# Altium footprint library Connector_PinSocket_1.27mm.PcbLib: 246 footprints (part 16 of 16)
Each footprint in its own frame and in the unit in brackets; x right, y up, seen from the top. Pads: shape width x height; smd on the part's side, far side on the other; paste and mask are expansions set on the pad; w line width, h text height; cw(c..) or ccw(c..) is an arc to the next point about the centre after c.
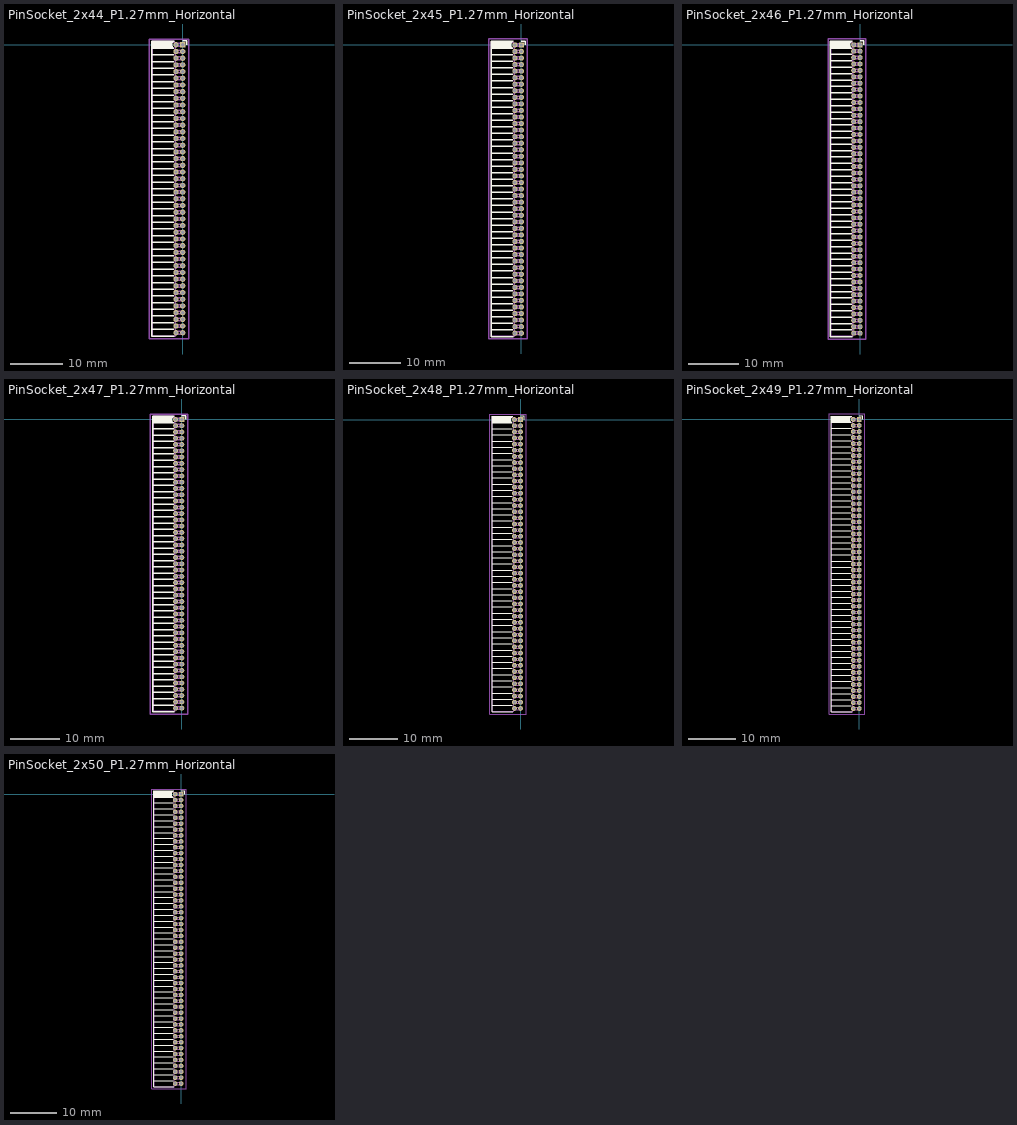
[diagram p15: the footprints below, top view; thin cyan lines are the x and y axes]

## PinSocket_2x44_P1.27mm_Horizontal [mm]
pads (88):
  rect 1x1 hole 0.65: 1(0,0)
  round 1 hole 0.65: 2(-1.27,0) 3(0,-1.27) 4(-1.27,-1.27) 5(0,-2.54) 6(-1.27,-2.54) 7(0,-3.81) 8(-1.27,-3.81) 9(0,-5.08) 10(-1.27,-5.08) 11(0,-6.35) 12(-1.27,-6.35) 13(0,-7.62) 14(-1.27,-7.62) 15(0,-8.89) 16(-1.27,-8.89) 17(0,-10.16) 18(-1.27,-10.16) 19(0,-11.43) 20(-1.27,-11.43) 21(0,-12.7) 22(-1.27,-12.7) 23(0,-13.97) 24(-1.27,-13.97) 25(0,-15.24) 26(-1.27,-15.24) 27(0,-16.51) 28(-1.27,-16.51) 29(0,-17.78) 30(-1.27,-17.78) 31(0,-19.05) 32(-1.27,-19.05) 33(0,-20.32) 34(-1.27,-20.32) 35(0,-21.59) 36(-1.27,-21.59) 37(0,-22.86) 38(-1.27,-22.86) 39(0,-24.13) 40(-1.27,-24.13) 41(0,-25.4) 42(-1.27,-25.4) 43(0,-26.67) 44(-1.27,-26.67) 45(0,-27.94) 46(-1.27,-27.94) 47(0,-29.21) 48(-1.27,-29.21) 49(0,-30.48) 50(-1.27,-30.48) 51(0,-31.75) 52(-1.27,-31.75) 53(0,-33.02) 54(-1.27,-33.02) 55(0,-34.29) 56(-1.27,-34.29) 57(0,-35.56) 58(-1.27,-35.56) 59(0,-36.83) 60(-1.27,-36.83) 61(0,-38.1) 62(-1.27,-38.1) 63(0,-39.37) 64(-1.27,-39.37) 65(0,-40.64) 66(-1.27,-40.64) 67(0,-41.91) 68(-1.27,-41.91) 69(0,-43.18) 70(-1.27,-43.18) 71(0,-44.45) 72(-1.27,-44.45) 73(0,-45.72) 74(-1.27,-45.72) 75(0,-46.99) 76(-1.27,-46.99) 77(0,-48.26) 78(-1.27,-48.26) 79(0,-49.53) 80(-1.27,-49.53) 81(0,-50.8) 82(-1.27,-50.8) 83(0,-52.07) 84(-1.27,-52.07) 85(0,-53.34) 86(-1.27,-53.34) 87(0,-54.61) 88(-1.27,-54.61)
F.SilkS:
  lines w0.254: -5.88,-53.975 -1.688,-53.975 ; -5.88,-52.705 -1.688,-52.705 ; -5.88,-51.435 -1.688,-51.435 ; -5.88,-50.165 -1.688,-50.165 ; -5.88,-48.895 -1.688,-48.895 ; -5.88,-47.625 -1.688,-47.625 ; -5.88,-46.355 -1.688,-46.355 ; -5.88,-45.085 -1.688,-45.085 ; -5.88,-43.815 -1.688,-43.815 ; -5.88,-42.545 -1.688,-42.545 ; -5.88,-41.275 -1.688,-41.275 ; -5.88,-40.005 -1.688,-40.005 ; -5.88,-38.735 -1.688,-38.735 ; -5.88,-37.465 -1.688,-37.465 ; -5.88,-36.195 -1.688,-36.195 ; -5.88,-34.925 -1.688,-34.925 ; -5.88,-33.655 -1.688,-33.655 ; -5.88,-32.385 -1.688,-32.385 ; -5.88,-31.115 -1.688,-31.115 ; -5.88,-29.845 -1.688,-29.845 ; -5.88,-28.575 -1.688,-28.575 ; -5.88,-27.305 -1.688,-27.305 ; -5.88,-26.035 -1.688,-26.035 ; -5.88,-24.765 -1.688,-24.765 ; -5.88,-23.495 -1.688,-23.495 ; -5.88,-22.225 -1.688,-22.225 ; -5.88,-20.955 -1.688,-20.955 ; -5.88,-19.685 -1.688,-19.685 ; -5.88,-18.415 -1.688,-18.415 ; -5.88,-17.145 -1.688,-17.145 ; -5.88,-15.875 -1.688,-15.875 ; -5.88,-14.605 -1.688,-14.605 ; -5.88,-13.335 -1.688,-13.335 ; -5.88,-12.065 -1.688,-12.065 ; -5.88,-10.795 -1.688,-10.795 ; -5.88,-9.525 -1.688,-9.525 ; -5.88,-8.255 -1.688,-8.255 ; -5.88,-6.985 -1.688,-6.985 ; -5.88,-5.715 -1.688,-5.715 ; -5.88,-4.445 -1.688,-4.445 ; -5.88,-3.175 -1.688,-3.175 ; -5.88,-1.905 -1.688,-1.905 ; -5.88,-0.635 -1.688,-0.635 ; -5.88,-0.525 -1.82,-0.525 ; -5.88,-0.415 -1.907,-0.415 ; -5.88,-0.305 -1.966,-0.305 ; -5.88,-0.195 -2.005,-0.195 ; -5.88,-0.085 -2.025,-0.085 ; -5.88,0.025 -2.03,0.025 ; -5.88,0.135 -2.018,0.135 ; -5.88,0.245 -1.989,0.245 ; -5.88,0.355 -1.942,0.355 ; -5.88,0.465 -1.871,0.465 ; -5.88,0.575 -1.767,0.575 ; -1.578,-55.305 -5.88,-55.305 -5.88,0.695 -1.578,0.695 ; 0,0.76 0.76,0.76 0.76,0
Top Assembly:
  lines w0.254: -1.42,-54.86 0,-54.86 0,-54.36 -1.42,-54.36 ; -1.42,-53.59 0,-53.59 0,-53.09 -1.42,-53.09 ; -1.42,-52.32 0,-52.32 0,-51.82 -1.42,-51.82 ; -1.42,-51.05 0,-51.05 0,-50.55 -1.42,-50.55 ; -1.42,-49.78 0,-49.78 0,-49.28 -1.42,-49.28 ; -1.42,-48.51 0,-48.51 0,-48.01 -1.42,-48.01 ; -1.42,-47.24 0,-47.24 0,-46.74 -1.42,-46.74 ; -1.42,-45.97 0,-45.97 0,-45.47 -1.42,-45.47 ; -1.42,-44.7 0,-44.7 0,-44.2 -1.42,-44.2 ; -1.42,-43.43 0,-43.43 0,-42.93 -1.42,-42.93 ; -1.42,-42.16 0,-42.16 0,-41.66 -1.42,-41.66 ; -1.42,-40.89 0,-40.89 0,-40.39 -1.42,-40.39 ; -1.42,-39.62 0,-39.62 0,-39.12 -1.42,-39.12 ; -1.42,-38.35 0,-38.35 0,-37.85 -1.42,-37.85 ; -1.42,-37.08 0,-37.08 0,-36.58 -1.42,-36.58 ; -1.42,-35.81 0,-35.81 0,-35.31 -1.42,-35.31 ; -1.42,-34.54 0,-34.54 0,-34.04 -1.42,-34.04 ; -1.42,-33.27 0,-33.27 0,-32.77 -1.42,-32.77 ; -1.42,-32 0,-32 0,-31.5 -1.42,-31.5 ; -1.42,-30.73 0,-30.73 0,-30.23 -1.42,-30.23 ; -1.42,-29.46 0,-29.46 0,-28.96 -1.42,-28.96 ; -1.42,-28.19 0,-28.19 0,-27.69 -1.42,-27.69 ; -1.42,-26.92 0,-26.92 0,-26.42 -1.42,-26.42 ; -1.42,-25.65 0,-25.65 0,-25.15 -1.42,-25.15 ; -1.42,-24.38 0,-24.38 0,-23.88 -1.42,-23.88 ; -1.42,-23.11 0,-23.11 0,-22.61 -1.42,-22.61 ; -1.42,-21.84 0,-21.84 0,-21.34 -1.42,-21.34 ; -1.42,-20.57 0,-20.57 0,-20.07 -1.42,-20.07 ; -1.42,-19.3 0,-19.3 0,-18.8 -1.42,-18.8 ; -1.42,-18.03 0,-18.03 0,-17.53 -1.42,-17.53 ; -1.42,-16.76 0,-16.76 0,-16.26 -1.42,-16.26 ; -1.42,-15.49 0,-15.49 0,-14.99 -1.42,-14.99 ; -1.42,-14.22 0,-14.22 0,-13.72 -1.42,-13.72 ; -1.42,-12.95 0,-12.95 0,-12.45 -1.42,-12.45 ; -1.42,-11.68 0,-11.68 0,-11.18 -1.42,-11.18 ; -1.42,-10.41 0,-10.41 0,-9.91 -1.42,-9.91 ; -1.42,-9.14 0,-9.14 0,-8.64 -1.42,-8.64 ; -1.42,-7.87 0,-7.87 0,-7.37 -1.42,-7.37 ; -1.42,-6.6 0,-6.6 0,-6.1 -1.42,-6.1 ; -1.42,-5.33 0,-5.33 0,-4.83 -1.42,-4.83 ; -1.42,-4.06 0,-4.06 0,-3.56 -1.42,-3.56 ; -1.42,-2.79 0,-2.79 0,-2.29 -1.42,-2.29 ; -1.42,-1.52 0,-1.52 0,-1.02 -1.42,-1.02 ; -1.42,-0.25 0,-0.25 0,0.25 -1.42,0.25 ; -1.42,0.25 -1.42,-55.245 -5.82,-55.245 -5.82,0.635 -1.805,0.635 -1.42,0.25
  text "'.Designator'" at -2.78,-31.352 h1
Top Courtyard:
  lines w0.254: -6.35,-55.8 1.15,-55.8 1.15,1.1 -6.35,1.1 -6.35,-55.8
Top Designator:
  text ".Designator" at -10.218,-27.858 h1.52

## PinSocket_2x45_P1.27mm_Horizontal [mm]
pads (90):
  rect 1x1 hole 0.65: 1(0,0)
  round 1 hole 0.65: 2(-1.27,0) 3(0,-1.27) 4(-1.27,-1.27) 5(0,-2.54) 6(-1.27,-2.54) 7(0,-3.81) 8(-1.27,-3.81) 9(0,-5.08) 10(-1.27,-5.08) 11(0,-6.35) 12(-1.27,-6.35) 13(0,-7.62) 14(-1.27,-7.62) 15(0,-8.89) 16(-1.27,-8.89) 17(0,-10.16) 18(-1.27,-10.16) 19(0,-11.43) 20(-1.27,-11.43) 21(0,-12.7) 22(-1.27,-12.7) 23(0,-13.97) 24(-1.27,-13.97) 25(0,-15.24) 26(-1.27,-15.24) 27(0,-16.51) 28(-1.27,-16.51) 29(0,-17.78) 30(-1.27,-17.78) 31(0,-19.05) 32(-1.27,-19.05) 33(0,-20.32) 34(-1.27,-20.32) 35(0,-21.59) 36(-1.27,-21.59) 37(0,-22.86) 38(-1.27,-22.86) 39(0,-24.13) 40(-1.27,-24.13) 41(0,-25.4) 42(-1.27,-25.4) 43(0,-26.67) 44(-1.27,-26.67) 45(0,-27.94) 46(-1.27,-27.94) 47(0,-29.21) 48(-1.27,-29.21) 49(0,-30.48) 50(-1.27,-30.48) 51(0,-31.75) 52(-1.27,-31.75) 53(0,-33.02) 54(-1.27,-33.02) 55(0,-34.29) 56(-1.27,-34.29) 57(0,-35.56) 58(-1.27,-35.56) 59(0,-36.83) 60(-1.27,-36.83) 61(0,-38.1) 62(-1.27,-38.1) 63(0,-39.37) 64(-1.27,-39.37) 65(0,-40.64) 66(-1.27,-40.64) 67(0,-41.91) 68(-1.27,-41.91) 69(0,-43.18) 70(-1.27,-43.18) 71(0,-44.45) 72(-1.27,-44.45) 73(0,-45.72) 74(-1.27,-45.72) 75(0,-46.99) 76(-1.27,-46.99) 77(0,-48.26) 78(-1.27,-48.26) 79(0,-49.53) 80(-1.27,-49.53) 81(0,-50.8) 82(-1.27,-50.8) 83(0,-52.07) 84(-1.27,-52.07) 85(0,-53.34) 86(-1.27,-53.34) 87(0,-54.61) 88(-1.27,-54.61) 89(0,-55.88) 90(-1.27,-55.88)
F.SilkS:
  lines w0.254: -5.88,-55.245 -1.688,-55.245 ; -5.88,-53.975 -1.688,-53.975 ; -5.88,-52.705 -1.688,-52.705 ; -5.88,-51.435 -1.688,-51.435 ; -5.88,-50.165 -1.688,-50.165 ; -5.88,-48.895 -1.688,-48.895 ; -5.88,-47.625 -1.688,-47.625 ; -5.88,-46.355 -1.688,-46.355 ; -5.88,-45.085 -1.688,-45.085 ; -5.88,-43.815 -1.688,-43.815 ; -5.88,-42.545 -1.688,-42.545 ; -5.88,-41.275 -1.688,-41.275 ; -5.88,-40.005 -1.688,-40.005 ; -5.88,-38.735 -1.688,-38.735 ; -5.88,-37.465 -1.688,-37.465 ; -5.88,-36.195 -1.688,-36.195 ; -5.88,-34.925 -1.688,-34.925 ; -5.88,-33.655 -1.688,-33.655 ; -5.88,-32.385 -1.688,-32.385 ; -5.88,-31.115 -1.688,-31.115 ; -5.88,-29.845 -1.688,-29.845 ; -5.88,-28.575 -1.688,-28.575 ; -5.88,-27.305 -1.688,-27.305 ; -5.88,-26.035 -1.688,-26.035 ; -5.88,-24.765 -1.688,-24.765 ; -5.88,-23.495 -1.688,-23.495 ; -5.88,-22.225 -1.688,-22.225 ; -5.88,-20.955 -1.688,-20.955 ; -5.88,-19.685 -1.688,-19.685 ; -5.88,-18.415 -1.688,-18.415 ; -5.88,-17.145 -1.688,-17.145 ; -5.88,-15.875 -1.688,-15.875 ; -5.88,-14.605 -1.688,-14.605 ; -5.88,-13.335 -1.688,-13.335 ; -5.88,-12.065 -1.688,-12.065 ; -5.88,-10.795 -1.688,-10.795 ; -5.88,-9.525 -1.688,-9.525 ; -5.88,-8.255 -1.688,-8.255 ; -5.88,-6.985 -1.688,-6.985 ; -5.88,-5.715 -1.688,-5.715 ; -5.88,-4.445 -1.688,-4.445 ; -5.88,-3.175 -1.688,-3.175 ; -5.88,-1.905 -1.688,-1.905 ; -5.88,-0.635 -1.688,-0.635 ; -5.88,-0.525 -1.82,-0.525 ; -5.88,-0.415 -1.907,-0.415 ; -5.88,-0.305 -1.966,-0.305 ; -5.88,-0.195 -2.005,-0.195 ; -5.88,-0.085 -2.025,-0.085 ; -5.88,0.025 -2.03,0.025 ; -5.88,0.135 -2.018,0.135 ; -5.88,0.245 -1.989,0.245 ; -5.88,0.355 -1.942,0.355 ; -5.88,0.465 -1.871,0.465 ; -5.88,0.575 -1.767,0.575 ; -1.578,-56.575 -5.88,-56.575 -5.88,0.695 -1.578,0.695 ; 0,0.76 0.76,0.76 0.76,0
Top Assembly:
  lines w0.254: -1.42,-56.13 0,-56.13 0,-55.63 -1.42,-55.63 ; -1.42,-54.86 0,-54.86 0,-54.36 -1.42,-54.36 ; -1.42,-53.59 0,-53.59 0,-53.09 -1.42,-53.09 ; -1.42,-52.32 0,-52.32 0,-51.82 -1.42,-51.82 ; -1.42,-51.05 0,-51.05 0,-50.55 -1.42,-50.55 ; -1.42,-49.78 0,-49.78 0,-49.28 -1.42,-49.28 ; -1.42,-48.51 0,-48.51 0,-48.01 -1.42,-48.01 ; -1.42,-47.24 0,-47.24 0,-46.74 -1.42,-46.74 ; -1.42,-45.97 0,-45.97 0,-45.47 -1.42,-45.47 ; -1.42,-44.7 0,-44.7 0,-44.2 -1.42,-44.2 ; -1.42,-43.43 0,-43.43 0,-42.93 -1.42,-42.93 ; -1.42,-42.16 0,-42.16 0,-41.66 -1.42,-41.66 ; -1.42,-40.89 0,-40.89 0,-40.39 -1.42,-40.39 ; -1.42,-39.62 0,-39.62 0,-39.12 -1.42,-39.12 ; -1.42,-38.35 0,-38.35 0,-37.85 -1.42,-37.85 ; -1.42,-37.08 0,-37.08 0,-36.58 -1.42,-36.58 ; -1.42,-35.81 0,-35.81 0,-35.31 -1.42,-35.31 ; -1.42,-34.54 0,-34.54 0,-34.04 -1.42,-34.04 ; -1.42,-33.27 0,-33.27 0,-32.77 -1.42,-32.77 ; -1.42,-32 0,-32 0,-31.5 -1.42,-31.5 ; -1.42,-30.73 0,-30.73 0,-30.23 -1.42,-30.23 ; -1.42,-29.46 0,-29.46 0,-28.96 -1.42,-28.96 ; -1.42,-28.19 0,-28.19 0,-27.69 -1.42,-27.69 ; -1.42,-26.92 0,-26.92 0,-26.42 -1.42,-26.42 ; -1.42,-25.65 0,-25.65 0,-25.15 -1.42,-25.15 ; -1.42,-24.38 0,-24.38 0,-23.88 -1.42,-23.88 ; -1.42,-23.11 0,-23.11 0,-22.61 -1.42,-22.61 ; -1.42,-21.84 0,-21.84 0,-21.34 -1.42,-21.34 ; -1.42,-20.57 0,-20.57 0,-20.07 -1.42,-20.07 ; -1.42,-19.3 0,-19.3 0,-18.8 -1.42,-18.8 ; -1.42,-18.03 0,-18.03 0,-17.53 -1.42,-17.53 ; -1.42,-16.76 0,-16.76 0,-16.26 -1.42,-16.26 ; -1.42,-15.49 0,-15.49 0,-14.99 -1.42,-14.99 ; -1.42,-14.22 0,-14.22 0,-13.72 -1.42,-13.72 ; -1.42,-12.95 0,-12.95 0,-12.45 -1.42,-12.45 ; -1.42,-11.68 0,-11.68 0,-11.18 -1.42,-11.18 ; -1.42,-10.41 0,-10.41 0,-9.91 -1.42,-9.91 ; -1.42,-9.14 0,-9.14 0,-8.64 -1.42,-8.64 ; -1.42,-7.87 0,-7.87 0,-7.37 -1.42,-7.37 ; -1.42,-6.6 0,-6.6 0,-6.1 -1.42,-6.1 ; -1.42,-5.33 0,-5.33 0,-4.83 -1.42,-4.83 ; -1.42,-4.06 0,-4.06 0,-3.56 -1.42,-3.56 ; -1.42,-2.79 0,-2.79 0,-2.29 -1.42,-2.29 ; -1.42,-1.52 0,-1.52 0,-1.02 -1.42,-1.02 ; -1.42,-0.25 0,-0.25 0,0.25 -1.42,0.25 ; -1.42,0.25 -1.42,-56.515 -5.82,-56.515 -5.82,0.635 -1.805,0.635 -1.42,0.25
  text "'.Designator'" at -2.78,-31.987 h1
Top Courtyard:
  lines w0.254: -6.35,-57 1.15,-57 1.15,1.15 -6.35,1.15 -6.35,-57
Top Designator:
  text ".Designator" at -10.218,-28.433 h1.52

## PinSocket_2x46_P1.27mm_Horizontal [mm]
pads (92):
  rect 1x1 hole 0.65: 1(0,0)
  round 1 hole 0.65: 2(-1.27,0) 3(0,-1.27) 4(-1.27,-1.27) 5(0,-2.54) 6(-1.27,-2.54) 7(0,-3.81) 8(-1.27,-3.81) 9(0,-5.08) 10(-1.27,-5.08) 11(0,-6.35) 12(-1.27,-6.35) 13(0,-7.62) 14(-1.27,-7.62) 15(0,-8.89) 16(-1.27,-8.89) 17(0,-10.16) 18(-1.27,-10.16) 19(0,-11.43) 20(-1.27,-11.43) 21(0,-12.7) 22(-1.27,-12.7) 23(0,-13.97) 24(-1.27,-13.97) 25(0,-15.24) 26(-1.27,-15.24) 27(0,-16.51) 28(-1.27,-16.51) 29(0,-17.78) 30(-1.27,-17.78) 31(0,-19.05) 32(-1.27,-19.05) 33(0,-20.32) 34(-1.27,-20.32) 35(0,-21.59) 36(-1.27,-21.59) 37(0,-22.86) 38(-1.27,-22.86) 39(0,-24.13) 40(-1.27,-24.13) 41(0,-25.4) 42(-1.27,-25.4) 43(0,-26.67) 44(-1.27,-26.67) 45(0,-27.94) 46(-1.27,-27.94) 47(0,-29.21) 48(-1.27,-29.21) 49(0,-30.48) 50(-1.27,-30.48) 51(0,-31.75) 52(-1.27,-31.75) 53(0,-33.02) 54(-1.27,-33.02) 55(0,-34.29) 56(-1.27,-34.29) 57(0,-35.56) 58(-1.27,-35.56) 59(0,-36.83) 60(-1.27,-36.83) 61(0,-38.1) 62(-1.27,-38.1) 63(0,-39.37) 64(-1.27,-39.37) 65(0,-40.64) 66(-1.27,-40.64) 67(0,-41.91) 68(-1.27,-41.91) 69(0,-43.18) 70(-1.27,-43.18) 71(0,-44.45) 72(-1.27,-44.45) 73(0,-45.72) 74(-1.27,-45.72) 75(0,-46.99) 76(-1.27,-46.99) 77(0,-48.26) 78(-1.27,-48.26) 79(0,-49.53) 80(-1.27,-49.53) 81(0,-50.8) 82(-1.27,-50.8) 83(0,-52.07) 84(-1.27,-52.07) 85(0,-53.34) 86(-1.27,-53.34) 87(0,-54.61) 88(-1.27,-54.61) 89(0,-55.88) 90(-1.27,-55.88) 91(0,-57.15) 92(-1.27,-57.15)
F.SilkS:
  lines w0.254: -5.88,-56.515 -1.688,-56.515 ; -5.88,-55.245 -1.688,-55.245 ; -5.88,-53.975 -1.688,-53.975 ; -5.88,-52.705 -1.688,-52.705 ; -5.88,-51.435 -1.688,-51.435 ; -5.88,-50.165 -1.688,-50.165 ; -5.88,-48.895 -1.688,-48.895 ; -5.88,-47.625 -1.688,-47.625 ; -5.88,-46.355 -1.688,-46.355 ; -5.88,-45.085 -1.688,-45.085 ; -5.88,-43.815 -1.688,-43.815 ; -5.88,-42.545 -1.688,-42.545 ; -5.88,-41.275 -1.688,-41.275 ; -5.88,-40.005 -1.688,-40.005 ; -5.88,-38.735 -1.688,-38.735 ; -5.88,-37.465 -1.688,-37.465 ; -5.88,-36.195 -1.688,-36.195 ; -5.88,-34.925 -1.688,-34.925 ; -5.88,-33.655 -1.688,-33.655 ; -5.88,-32.385 -1.688,-32.385 ; -5.88,-31.115 -1.688,-31.115 ; -5.88,-29.845 -1.688,-29.845 ; -5.88,-28.575 -1.688,-28.575 ; -5.88,-27.305 -1.688,-27.305 ; -5.88,-26.035 -1.688,-26.035 ; -5.88,-24.765 -1.688,-24.765 ; -5.88,-23.495 -1.688,-23.495 ; -5.88,-22.225 -1.688,-22.225 ; -5.88,-20.955 -1.688,-20.955 ; -5.88,-19.685 -1.688,-19.685 ; -5.88,-18.415 -1.688,-18.415 ; -5.88,-17.145 -1.688,-17.145 ; -5.88,-15.875 -1.688,-15.875 ; -5.88,-14.605 -1.688,-14.605 ; -5.88,-13.335 -1.688,-13.335 ; -5.88,-12.065 -1.688,-12.065 ; -5.88,-10.795 -1.688,-10.795 ; -5.88,-9.525 -1.688,-9.525 ; -5.88,-8.255 -1.688,-8.255 ; -5.88,-6.985 -1.688,-6.985 ; -5.88,-5.715 -1.688,-5.715 ; -5.88,-4.445 -1.688,-4.445 ; -5.88,-3.175 -1.688,-3.175 ; -5.88,-1.905 -1.688,-1.905 ; -5.88,-0.635 -1.688,-0.635 ; -5.88,-0.525 -1.82,-0.525 ; -5.88,-0.415 -1.907,-0.415 ; -5.88,-0.305 -1.966,-0.305 ; -5.88,-0.195 -2.005,-0.195 ; -5.88,-0.085 -2.025,-0.085 ; -5.88,0.025 -2.03,0.025 ; -5.88,0.135 -2.018,0.135 ; -5.88,0.245 -1.989,0.245 ; -5.88,0.355 -1.942,0.355 ; -5.88,0.465 -1.871,0.465 ; -5.88,0.575 -1.767,0.575 ; -1.578,-57.845 -5.88,-57.845 -5.88,0.695 -1.578,0.695 ; 0,0.76 0.76,0.76 0.76,0
Top Assembly:
  lines w0.254: -1.42,-57.4 0,-57.4 0,-56.9 -1.42,-56.9 ; -1.42,-56.13 0,-56.13 0,-55.63 -1.42,-55.63 ; -1.42,-54.86 0,-54.86 0,-54.36 -1.42,-54.36 ; -1.42,-53.59 0,-53.59 0,-53.09 -1.42,-53.09 ; -1.42,-52.32 0,-52.32 0,-51.82 -1.42,-51.82 ; -1.42,-51.05 0,-51.05 0,-50.55 -1.42,-50.55 ; -1.42,-49.78 0,-49.78 0,-49.28 -1.42,-49.28 ; -1.42,-48.51 0,-48.51 0,-48.01 -1.42,-48.01 ; -1.42,-47.24 0,-47.24 0,-46.74 -1.42,-46.74 ; -1.42,-45.97 0,-45.97 0,-45.47 -1.42,-45.47 ; -1.42,-44.7 0,-44.7 0,-44.2 -1.42,-44.2 ; -1.42,-43.43 0,-43.43 0,-42.93 -1.42,-42.93 ; -1.42,-42.16 0,-42.16 0,-41.66 -1.42,-41.66 ; -1.42,-40.89 0,-40.89 0,-40.39 -1.42,-40.39 ; -1.42,-39.62 0,-39.62 0,-39.12 -1.42,-39.12 ; -1.42,-38.35 0,-38.35 0,-37.85 -1.42,-37.85 ; -1.42,-37.08 0,-37.08 0,-36.58 -1.42,-36.58 ; -1.42,-35.81 0,-35.81 0,-35.31 -1.42,-35.31 ; -1.42,-34.54 0,-34.54 0,-34.04 -1.42,-34.04 ; -1.42,-33.27 0,-33.27 0,-32.77 -1.42,-32.77 ; -1.42,-32 0,-32 0,-31.5 -1.42,-31.5 ; -1.42,-30.73 0,-30.73 0,-30.23 -1.42,-30.23 ; -1.42,-29.46 0,-29.46 0,-28.96 -1.42,-28.96 ; -1.42,-28.19 0,-28.19 0,-27.69 -1.42,-27.69 ; -1.42,-26.92 0,-26.92 0,-26.42 -1.42,-26.42 ; -1.42,-25.65 0,-25.65 0,-25.15 -1.42,-25.15 ; -1.42,-24.38 0,-24.38 0,-23.88 -1.42,-23.88 ; -1.42,-23.11 0,-23.11 0,-22.61 -1.42,-22.61 ; -1.42,-21.84 0,-21.84 0,-21.34 -1.42,-21.34 ; -1.42,-20.57 0,-20.57 0,-20.07 -1.42,-20.07 ; -1.42,-19.3 0,-19.3 0,-18.8 -1.42,-18.8 ; -1.42,-18.03 0,-18.03 0,-17.53 -1.42,-17.53 ; -1.42,-16.76 0,-16.76 0,-16.26 -1.42,-16.26 ; -1.42,-15.49 0,-15.49 0,-14.99 -1.42,-14.99 ; -1.42,-14.22 0,-14.22 0,-13.72 -1.42,-13.72 ; -1.42,-12.95 0,-12.95 0,-12.45 -1.42,-12.45 ; -1.42,-11.68 0,-11.68 0,-11.18 -1.42,-11.18 ; -1.42,-10.41 0,-10.41 0,-9.91 -1.42,-9.91 ; -1.42,-9.14 0,-9.14 0,-8.64 -1.42,-8.64 ; -1.42,-7.87 0,-7.87 0,-7.37 -1.42,-7.37 ; -1.42,-6.6 0,-6.6 0,-6.1 -1.42,-6.1 ; -1.42,-5.33 0,-5.33 0,-4.83 -1.42,-4.83 ; -1.42,-4.06 0,-4.06 0,-3.56 -1.42,-3.56 ; -1.42,-2.79 0,-2.79 0,-2.29 -1.42,-2.29 ; -1.42,-1.52 0,-1.52 0,-1.02 -1.42,-1.02 ; -1.42,-0.25 0,-0.25 0,0.25 -1.42,0.25 ; -1.42,0.25 -1.42,-57.785 -5.82,-57.785 -5.82,0.635 -1.805,0.635 -1.42,0.25
  text "'.Designator'" at -2.78,-32.622 h1
Top Courtyard:
  lines w0.254: -6.35,-58.3 1.15,-58.3 1.15,1.15 -6.35,1.15 -6.35,-58.3
Top Designator:
  text ".Designator" at -10.218,-29.083 h1.52

## PinSocket_2x47_P1.27mm_Horizontal [mm]
pads (94):
  rect 1x1 hole 0.65: 1(0,0)
  round 1 hole 0.65: 2(-1.27,0) 3(0,-1.27) 4(-1.27,-1.27) 5(0,-2.54) 6(-1.27,-2.54) 7(0,-3.81) 8(-1.27,-3.81) 9(0,-5.08) 10(-1.27,-5.08) 11(0,-6.35) 12(-1.27,-6.35) 13(0,-7.62) 14(-1.27,-7.62) 15(0,-8.89) 16(-1.27,-8.89) 17(0,-10.16) 18(-1.27,-10.16) 19(0,-11.43) 20(-1.27,-11.43) 21(0,-12.7) 22(-1.27,-12.7) 23(0,-13.97) 24(-1.27,-13.97) 25(0,-15.24) 26(-1.27,-15.24) 27(0,-16.51) 28(-1.27,-16.51) 29(0,-17.78) 30(-1.27,-17.78) 31(0,-19.05) 32(-1.27,-19.05) 33(0,-20.32) 34(-1.27,-20.32) 35(0,-21.59) 36(-1.27,-21.59) 37(0,-22.86) 38(-1.27,-22.86) 39(0,-24.13) 40(-1.27,-24.13) 41(0,-25.4) 42(-1.27,-25.4) 43(0,-26.67) 44(-1.27,-26.67) 45(0,-27.94) 46(-1.27,-27.94) 47(0,-29.21) 48(-1.27,-29.21) 49(0,-30.48) 50(-1.27,-30.48) 51(0,-31.75) 52(-1.27,-31.75) 53(0,-33.02) 54(-1.27,-33.02) 55(0,-34.29) 56(-1.27,-34.29) 57(0,-35.56) 58(-1.27,-35.56) 59(0,-36.83) 60(-1.27,-36.83) 61(0,-38.1) 62(-1.27,-38.1) 63(0,-39.37) 64(-1.27,-39.37) 65(0,-40.64) 66(-1.27,-40.64) 67(0,-41.91) 68(-1.27,-41.91) 69(0,-43.18) 70(-1.27,-43.18) 71(0,-44.45) 72(-1.27,-44.45) 73(0,-45.72) 74(-1.27,-45.72) 75(0,-46.99) 76(-1.27,-46.99) 77(0,-48.26) 78(-1.27,-48.26) 79(0,-49.53) 80(-1.27,-49.53) 81(0,-50.8) 82(-1.27,-50.8) 83(0,-52.07) 84(-1.27,-52.07) 85(0,-53.34) 86(-1.27,-53.34) 87(0,-54.61) 88(-1.27,-54.61) 89(0,-55.88) 90(-1.27,-55.88) 91(0,-57.15) 92(-1.27,-57.15) 93(0,-58.42) 94(-1.27,-58.42)
F.SilkS:
  lines w0.254: -5.88,-57.785 -1.688,-57.785 ; -5.88,-56.515 -1.688,-56.515 ; -5.88,-55.245 -1.688,-55.245 ; -5.88,-53.975 -1.688,-53.975 ; -5.88,-52.705 -1.688,-52.705 ; -5.88,-51.435 -1.688,-51.435 ; -5.88,-50.165 -1.688,-50.165 ; -5.88,-48.895 -1.688,-48.895 ; -5.88,-47.625 -1.688,-47.625 ; -5.88,-46.355 -1.688,-46.355 ; -5.88,-45.085 -1.688,-45.085 ; -5.88,-43.815 -1.688,-43.815 ; -5.88,-42.545 -1.688,-42.545 ; -5.88,-41.275 -1.688,-41.275 ; -5.88,-40.005 -1.688,-40.005 ; -5.88,-38.735 -1.688,-38.735 ; -5.88,-37.465 -1.688,-37.465 ; -5.88,-36.195 -1.688,-36.195 ; -5.88,-34.925 -1.688,-34.925 ; -5.88,-33.655 -1.688,-33.655 ; -5.88,-32.385 -1.688,-32.385 ; -5.88,-31.115 -1.688,-31.115 ; -5.88,-29.845 -1.688,-29.845 ; -5.88,-28.575 -1.688,-28.575 ; -5.88,-27.305 -1.688,-27.305 ; -5.88,-26.035 -1.688,-26.035 ; -5.88,-24.765 -1.688,-24.765 ; -5.88,-23.495 -1.688,-23.495 ; -5.88,-22.225 -1.688,-22.225 ; -5.88,-20.955 -1.688,-20.955 ; -5.88,-19.685 -1.688,-19.685 ; -5.88,-18.415 -1.688,-18.415 ; -5.88,-17.145 -1.688,-17.145 ; -5.88,-15.875 -1.688,-15.875 ; -5.88,-14.605 -1.688,-14.605 ; -5.88,-13.335 -1.688,-13.335 ; -5.88,-12.065 -1.688,-12.065 ; -5.88,-10.795 -1.688,-10.795 ; -5.88,-9.525 -1.688,-9.525 ; -5.88,-8.255 -1.688,-8.255 ; -5.88,-6.985 -1.688,-6.985 ; -5.88,-5.715 -1.688,-5.715 ; -5.88,-4.445 -1.688,-4.445 ; -5.88,-3.175 -1.688,-3.175 ; -5.88,-1.905 -1.688,-1.905 ; -5.88,-0.635 -1.688,-0.635 ; -5.88,-0.525 -1.82,-0.525 ; -5.88,-0.415 -1.907,-0.415 ; -5.88,-0.305 -1.966,-0.305 ; -5.88,-0.195 -2.005,-0.195 ; -5.88,-0.085 -2.025,-0.085 ; -5.88,0.025 -2.03,0.025 ; -5.88,0.135 -2.018,0.135 ; -5.88,0.245 -1.989,0.245 ; -5.88,0.355 -1.942,0.355 ; -5.88,0.465 -1.871,0.465 ; -5.88,0.575 -1.767,0.575 ; -1.578,-59.115 -5.88,-59.115 -5.88,0.695 -1.578,0.695 ; 0,0.76 0.76,0.76 0.76,0
Top Assembly:
  lines w0.254: -1.42,-58.67 0,-58.67 0,-58.17 -1.42,-58.17 ; -1.42,-57.4 0,-57.4 0,-56.9 -1.42,-56.9 ; -1.42,-56.13 0,-56.13 0,-55.63 -1.42,-55.63 ; -1.42,-54.86 0,-54.86 0,-54.36 -1.42,-54.36 ; -1.42,-53.59 0,-53.59 0,-53.09 -1.42,-53.09 ; -1.42,-52.32 0,-52.32 0,-51.82 -1.42,-51.82 ; -1.42,-51.05 0,-51.05 0,-50.55 -1.42,-50.55 ; -1.42,-49.78 0,-49.78 0,-49.28 -1.42,-49.28 ; -1.42,-48.51 0,-48.51 0,-48.01 -1.42,-48.01 ; -1.42,-47.24 0,-47.24 0,-46.74 -1.42,-46.74 ; -1.42,-45.97 0,-45.97 0,-45.47 -1.42,-45.47 ; -1.42,-44.7 0,-44.7 0,-44.2 -1.42,-44.2 ; -1.42,-43.43 0,-43.43 0,-42.93 -1.42,-42.93 ; -1.42,-42.16 0,-42.16 0,-41.66 -1.42,-41.66 ; -1.42,-40.89 0,-40.89 0,-40.39 -1.42,-40.39 ; -1.42,-39.62 0,-39.62 0,-39.12 -1.42,-39.12 ; -1.42,-38.35 0,-38.35 0,-37.85 -1.42,-37.85 ; -1.42,-37.08 0,-37.08 0,-36.58 -1.42,-36.58 ; -1.42,-35.81 0,-35.81 0,-35.31 -1.42,-35.31 ; -1.42,-34.54 0,-34.54 0,-34.04 -1.42,-34.04 ; -1.42,-33.27 0,-33.27 0,-32.77 -1.42,-32.77 ; -1.42,-32 0,-32 0,-31.5 -1.42,-31.5 ; -1.42,-30.73 0,-30.73 0,-30.23 -1.42,-30.23 ; -1.42,-29.46 0,-29.46 0,-28.96 -1.42,-28.96 ; -1.42,-28.19 0,-28.19 0,-27.69 -1.42,-27.69 ; -1.42,-26.92 0,-26.92 0,-26.42 -1.42,-26.42 ; -1.42,-25.65 0,-25.65 0,-25.15 -1.42,-25.15 ; -1.42,-24.38 0,-24.38 0,-23.88 -1.42,-23.88 ; -1.42,-23.11 0,-23.11 0,-22.61 -1.42,-22.61 ; -1.42,-21.84 0,-21.84 0,-21.34 -1.42,-21.34 ; -1.42,-20.57 0,-20.57 0,-20.07 -1.42,-20.07 ; -1.42,-19.3 0,-19.3 0,-18.8 -1.42,-18.8 ; -1.42,-18.03 0,-18.03 0,-17.53 -1.42,-17.53 ; -1.42,-16.76 0,-16.76 0,-16.26 -1.42,-16.26 ; -1.42,-15.49 0,-15.49 0,-14.99 -1.42,-14.99 ; -1.42,-14.22 0,-14.22 0,-13.72 -1.42,-13.72 ; -1.42,-12.95 0,-12.95 0,-12.45 -1.42,-12.45 ; -1.42,-11.68 0,-11.68 0,-11.18 -1.42,-11.18 ; -1.42,-10.41 0,-10.41 0,-9.91 -1.42,-9.91 ; -1.42,-9.14 0,-9.14 0,-8.64 -1.42,-8.64 ; -1.42,-7.87 0,-7.87 0,-7.37 -1.42,-7.37 ; -1.42,-6.6 0,-6.6 0,-6.1 -1.42,-6.1 ; -1.42,-5.33 0,-5.33 0,-4.83 -1.42,-4.83 ; -1.42,-4.06 0,-4.06 0,-3.56 -1.42,-3.56 ; -1.42,-2.79 0,-2.79 0,-2.29 -1.42,-2.29 ; -1.42,-1.52 0,-1.52 0,-1.02 -1.42,-1.02 ; -1.42,-0.25 0,-0.25 0,0.25 -1.42,0.25 ; -1.42,0.25 -1.42,-59.055 -5.82,-59.055 -5.82,0.635 -1.805,0.635 -1.42,0.25
  text "'.Designator'" at -2.78,-33.257 h1
Top Courtyard:
  lines w0.254: -6.35,-59.6 1.15,-59.6 1.15,1.1 -6.35,1.1 -6.35,-59.6
Top Designator:
  text ".Designator" at -10.218,-29.758 h1.52

## PinSocket_2x48_P1.27mm_Horizontal [mm]
pads (96):
  rect 1x1 hole 0.65: 1(0,0)
  round 1 hole 0.65: 2(-1.27,0) 3(0,-1.27) 4(-1.27,-1.27) 5(0,-2.54) 6(-1.27,-2.54) 7(0,-3.81) 8(-1.27,-3.81) 9(0,-5.08) 10(-1.27,-5.08) 11(0,-6.35) 12(-1.27,-6.35) 13(0,-7.62) 14(-1.27,-7.62) 15(0,-8.89) 16(-1.27,-8.89) 17(0,-10.16) 18(-1.27,-10.16) 19(0,-11.43) 20(-1.27,-11.43) 21(0,-12.7) 22(-1.27,-12.7) 23(0,-13.97) 24(-1.27,-13.97) 25(0,-15.24) 26(-1.27,-15.24) 27(0,-16.51) 28(-1.27,-16.51) 29(0,-17.78) 30(-1.27,-17.78) 31(0,-19.05) 32(-1.27,-19.05) 33(0,-20.32) 34(-1.27,-20.32) 35(0,-21.59) 36(-1.27,-21.59) 37(0,-22.86) 38(-1.27,-22.86) 39(0,-24.13) 40(-1.27,-24.13) 41(0,-25.4) 42(-1.27,-25.4) 43(0,-26.67) 44(-1.27,-26.67) 45(0,-27.94) 46(-1.27,-27.94) 47(0,-29.21) 48(-1.27,-29.21) 49(0,-30.48) 50(-1.27,-30.48) 51(0,-31.75) 52(-1.27,-31.75) 53(0,-33.02) 54(-1.27,-33.02) 55(0,-34.29) 56(-1.27,-34.29) 57(0,-35.56) 58(-1.27,-35.56) 59(0,-36.83) 60(-1.27,-36.83) 61(0,-38.1) 62(-1.27,-38.1) 63(0,-39.37) 64(-1.27,-39.37) 65(0,-40.64) 66(-1.27,-40.64) 67(0,-41.91) 68(-1.27,-41.91) 69(0,-43.18) 70(-1.27,-43.18) 71(0,-44.45) 72(-1.27,-44.45) 73(0,-45.72) 74(-1.27,-45.72) 75(0,-46.99) 76(-1.27,-46.99) 77(0,-48.26) 78(-1.27,-48.26) 79(0,-49.53) 80(-1.27,-49.53) 81(0,-50.8) 82(-1.27,-50.8) 83(0,-52.07) 84(-1.27,-52.07) 85(0,-53.34) 86(-1.27,-53.34) 87(0,-54.61) 88(-1.27,-54.61) 89(0,-55.88) 90(-1.27,-55.88) 91(0,-57.15) 92(-1.27,-57.15) 93(0,-58.42) 94(-1.27,-58.42) 95(0,-59.69) 96(-1.27,-59.69)
F.SilkS:
  lines w0.254: -5.88,-59.055 -1.688,-59.055 ; -5.88,-57.785 -1.688,-57.785 ; -5.88,-56.515 -1.688,-56.515 ; -5.88,-55.245 -1.688,-55.245 ; -5.88,-53.975 -1.688,-53.975 ; -5.88,-52.705 -1.688,-52.705 ; -5.88,-51.435 -1.688,-51.435 ; -5.88,-50.165 -1.688,-50.165 ; -5.88,-48.895 -1.688,-48.895 ; -5.88,-47.625 -1.688,-47.625 ; -5.88,-46.355 -1.688,-46.355 ; -5.88,-45.085 -1.688,-45.085 ; -5.88,-43.815 -1.688,-43.815 ; -5.88,-42.545 -1.688,-42.545 ; -5.88,-41.275 -1.688,-41.275 ; -5.88,-40.005 -1.688,-40.005 ; -5.88,-38.735 -1.688,-38.735 ; -5.88,-37.465 -1.688,-37.465 ; -5.88,-36.195 -1.688,-36.195 ; -5.88,-34.925 -1.688,-34.925 ; -5.88,-33.655 -1.688,-33.655 ; -5.88,-32.385 -1.688,-32.385 ; -5.88,-31.115 -1.688,-31.115 ; -5.88,-29.845 -1.688,-29.845 ; -5.88,-28.575 -1.688,-28.575 ; -5.88,-27.305 -1.688,-27.305 ; -5.88,-26.035 -1.688,-26.035 ; -5.88,-24.765 -1.688,-24.765 ; -5.88,-23.495 -1.688,-23.495 ; -5.88,-22.225 -1.688,-22.225 ; -5.88,-20.955 -1.688,-20.955 ; -5.88,-19.685 -1.688,-19.685 ; -5.88,-18.415 -1.688,-18.415 ; -5.88,-17.145 -1.688,-17.145 ; -5.88,-15.875 -1.688,-15.875 ; -5.88,-14.605 -1.688,-14.605 ; -5.88,-13.335 -1.688,-13.335 ; -5.88,-12.065 -1.688,-12.065 ; -5.88,-10.795 -1.688,-10.795 ; -5.88,-9.525 -1.688,-9.525 ; -5.88,-8.255 -1.688,-8.255 ; -5.88,-6.985 -1.688,-6.985 ; -5.88,-5.715 -1.688,-5.715 ; -5.88,-4.445 -1.688,-4.445 ; -5.88,-3.175 -1.688,-3.175 ; -5.88,-1.905 -1.688,-1.905 ; -5.88,-0.635 -1.688,-0.635 ; -5.88,-0.525 -1.82,-0.525 ; -5.88,-0.415 -1.907,-0.415 ; -5.88,-0.305 -1.966,-0.305 ; -5.88,-0.195 -2.005,-0.195 ; -5.88,-0.085 -2.025,-0.085 ; -5.88,0.025 -2.03,0.025 ; -5.88,0.135 -2.018,0.135 ; -5.88,0.245 -1.989,0.245 ; -5.88,0.355 -1.942,0.355 ; -5.88,0.465 -1.871,0.465 ; -5.88,0.575 -1.767,0.575 ; -1.578,-60.385 -5.88,-60.385 -5.88,0.695 -1.578,0.695 ; 0,0.76 0.76,0.76 0.76,0
Top Assembly:
  lines w0.254: -1.42,-59.94 0,-59.94 0,-59.44 -1.42,-59.44 ; -1.42,-58.67 0,-58.67 0,-58.17 -1.42,-58.17 ; -1.42,-57.4 0,-57.4 0,-56.9 -1.42,-56.9 ; -1.42,-56.13 0,-56.13 0,-55.63 -1.42,-55.63 ; -1.42,-54.86 0,-54.86 0,-54.36 -1.42,-54.36 ; -1.42,-53.59 0,-53.59 0,-53.09 -1.42,-53.09 ; -1.42,-52.32 0,-52.32 0,-51.82 -1.42,-51.82 ; -1.42,-51.05 0,-51.05 0,-50.55 -1.42,-50.55 ; -1.42,-49.78 0,-49.78 0,-49.28 -1.42,-49.28 ; -1.42,-48.51 0,-48.51 0,-48.01 -1.42,-48.01 ; -1.42,-47.24 0,-47.24 0,-46.74 -1.42,-46.74 ; -1.42,-45.97 0,-45.97 0,-45.47 -1.42,-45.47 ; -1.42,-44.7 0,-44.7 0,-44.2 -1.42,-44.2 ; -1.42,-43.43 0,-43.43 0,-42.93 -1.42,-42.93 ; -1.42,-42.16 0,-42.16 0,-41.66 -1.42,-41.66 ; -1.42,-40.89 0,-40.89 0,-40.39 -1.42,-40.39 ; -1.42,-39.62 0,-39.62 0,-39.12 -1.42,-39.12 ; -1.42,-38.35 0,-38.35 0,-37.85 -1.42,-37.85 ; -1.42,-37.08 0,-37.08 0,-36.58 -1.42,-36.58 ; -1.42,-35.81 0,-35.81 0,-35.31 -1.42,-35.31 ; -1.42,-34.54 0,-34.54 0,-34.04 -1.42,-34.04 ; -1.42,-33.27 0,-33.27 0,-32.77 -1.42,-32.77 ; -1.42,-32 0,-32 0,-31.5 -1.42,-31.5 ; -1.42,-30.73 0,-30.73 0,-30.23 -1.42,-30.23 ; -1.42,-29.46 0,-29.46 0,-28.96 -1.42,-28.96 ; -1.42,-28.19 0,-28.19 0,-27.69 -1.42,-27.69 ; -1.42,-26.92 0,-26.92 0,-26.42 -1.42,-26.42 ; -1.42,-25.65 0,-25.65 0,-25.15 -1.42,-25.15 ; -1.42,-24.38 0,-24.38 0,-23.88 -1.42,-23.88 ; -1.42,-23.11 0,-23.11 0,-22.61 -1.42,-22.61 ; -1.42,-21.84 0,-21.84 0,-21.34 -1.42,-21.34 ; -1.42,-20.57 0,-20.57 0,-20.07 -1.42,-20.07 ; -1.42,-19.3 0,-19.3 0,-18.8 -1.42,-18.8 ; -1.42,-18.03 0,-18.03 0,-17.53 -1.42,-17.53 ; -1.42,-16.76 0,-16.76 0,-16.26 -1.42,-16.26 ; -1.42,-15.49 0,-15.49 0,-14.99 -1.42,-14.99 ; -1.42,-14.22 0,-14.22 0,-13.72 -1.42,-13.72 ; -1.42,-12.95 0,-12.95 0,-12.45 -1.42,-12.45 ; -1.42,-11.68 0,-11.68 0,-11.18 -1.42,-11.18 ; -1.42,-10.41 0,-10.41 0,-9.91 -1.42,-9.91 ; -1.42,-9.14 0,-9.14 0,-8.64 -1.42,-8.64 ; -1.42,-7.87 0,-7.87 0,-7.37 -1.42,-7.37 ; -1.42,-6.6 0,-6.6 0,-6.1 -1.42,-6.1 ; -1.42,-5.33 0,-5.33 0,-4.83 -1.42,-4.83 ; -1.42,-4.06 0,-4.06 0,-3.56 -1.42,-3.56 ; -1.42,-2.79 0,-2.79 0,-2.29 -1.42,-2.29 ; -1.42,-1.52 0,-1.52 0,-1.02 -1.42,-1.02 ; -1.42,-0.25 0,-0.25 0,0.25 -1.42,0.25 ; -1.42,0.25 -1.42,-60.325 -5.82,-60.325 -5.82,0.635 -1.805,0.635 -1.42,0.25
  text "'.Designator'" at -2.78,-33.892 h1
Top Courtyard:
  lines w0.254: -6.35,-60.85 1.15,-60.85 1.15,1.15 -6.35,1.15 -6.35,-60.85
Top Designator:
  text ".Designator" at -10.218,-30.358 h1.52

## PinSocket_2x49_P1.27mm_Horizontal [mm]
pads (98):
  rect 1x1 hole 0.65: 1(0,0)
  round 1 hole 0.65: 2(-1.27,0) 3(0,-1.27) 4(-1.27,-1.27) 5(0,-2.54) 6(-1.27,-2.54) 7(0,-3.81) 8(-1.27,-3.81) 9(0,-5.08) 10(-1.27,-5.08) 11(0,-6.35) 12(-1.27,-6.35) 13(0,-7.62) 14(-1.27,-7.62) 15(0,-8.89) 16(-1.27,-8.89) 17(0,-10.16) 18(-1.27,-10.16) 19(0,-11.43) 20(-1.27,-11.43) 21(0,-12.7) 22(-1.27,-12.7) 23(0,-13.97) 24(-1.27,-13.97) 25(0,-15.24) 26(-1.27,-15.24) 27(0,-16.51) 28(-1.27,-16.51) 29(0,-17.78) 30(-1.27,-17.78) 31(0,-19.05) 32(-1.27,-19.05) 33(0,-20.32) 34(-1.27,-20.32) 35(0,-21.59) 36(-1.27,-21.59) 37(0,-22.86) 38(-1.27,-22.86) 39(0,-24.13) 40(-1.27,-24.13) 41(0,-25.4) 42(-1.27,-25.4) 43(0,-26.67) 44(-1.27,-26.67) 45(0,-27.94) 46(-1.27,-27.94) 47(0,-29.21) 48(-1.27,-29.21) 49(0,-30.48) 50(-1.27,-30.48) 51(0,-31.75) 52(-1.27,-31.75) 53(0,-33.02) 54(-1.27,-33.02) 55(0,-34.29) 56(-1.27,-34.29) 57(0,-35.56) 58(-1.27,-35.56) 59(0,-36.83) 60(-1.27,-36.83) 61(0,-38.1) 62(-1.27,-38.1) 63(0,-39.37) 64(-1.27,-39.37) 65(0,-40.64) 66(-1.27,-40.64) 67(0,-41.91) 68(-1.27,-41.91) 69(0,-43.18) 70(-1.27,-43.18) 71(0,-44.45) 72(-1.27,-44.45) 73(0,-45.72) 74(-1.27,-45.72) 75(0,-46.99) 76(-1.27,-46.99) 77(0,-48.26) 78(-1.27,-48.26) 79(0,-49.53) 80(-1.27,-49.53) 81(0,-50.8) 82(-1.27,-50.8) 83(0,-52.07) 84(-1.27,-52.07) 85(0,-53.34) 86(-1.27,-53.34) 87(0,-54.61) 88(-1.27,-54.61) 89(0,-55.88) 90(-1.27,-55.88) 91(0,-57.15) 92(-1.27,-57.15) 93(0,-58.42) 94(-1.27,-58.42) 95(0,-59.69) 96(-1.27,-59.69) 97(0,-60.96) 98(-1.27,-60.96)
F.SilkS:
  lines w0.254: -5.88,-60.325 -1.688,-60.325 ; -5.88,-59.055 -1.688,-59.055 ; -5.88,-57.785 -1.688,-57.785 ; -5.88,-56.515 -1.688,-56.515 ; -5.88,-55.245 -1.688,-55.245 ; -5.88,-53.975 -1.688,-53.975 ; -5.88,-52.705 -1.688,-52.705 ; -5.88,-51.435 -1.688,-51.435 ; -5.88,-50.165 -1.688,-50.165 ; -5.88,-48.895 -1.688,-48.895 ; -5.88,-47.625 -1.688,-47.625 ; -5.88,-46.355 -1.688,-46.355 ; -5.88,-45.085 -1.688,-45.085 ; -5.88,-43.815 -1.688,-43.815 ; -5.88,-42.545 -1.688,-42.545 ; -5.88,-41.275 -1.688,-41.275 ; -5.88,-40.005 -1.688,-40.005 ; -5.88,-38.735 -1.688,-38.735 ; -5.88,-37.465 -1.688,-37.465 ; -5.88,-36.195 -1.688,-36.195 ; -5.88,-34.925 -1.688,-34.925 ; -5.88,-33.655 -1.688,-33.655 ; -5.88,-32.385 -1.688,-32.385 ; -5.88,-31.115 -1.688,-31.115 ; -5.88,-29.845 -1.688,-29.845 ; -5.88,-28.575 -1.688,-28.575 ; -5.88,-27.305 -1.688,-27.305 ; -5.88,-26.035 -1.688,-26.035 ; -5.88,-24.765 -1.688,-24.765 ; -5.88,-23.495 -1.688,-23.495 ; -5.88,-22.225 -1.688,-22.225 ; -5.88,-20.955 -1.688,-20.955 ; -5.88,-19.685 -1.688,-19.685 ; -5.88,-18.415 -1.688,-18.415 ; -5.88,-17.145 -1.688,-17.145 ; -5.88,-15.875 -1.688,-15.875 ; -5.88,-14.605 -1.688,-14.605 ; -5.88,-13.335 -1.688,-13.335 ; -5.88,-12.065 -1.688,-12.065 ; -5.88,-10.795 -1.688,-10.795 ; -5.88,-9.525 -1.688,-9.525 ; -5.88,-8.255 -1.688,-8.255 ; -5.88,-6.985 -1.688,-6.985 ; -5.88,-5.715 -1.688,-5.715 ; -5.88,-4.445 -1.688,-4.445 ; -5.88,-3.175 -1.688,-3.175 ; -5.88,-1.905 -1.688,-1.905 ; -5.88,-0.635 -1.688,-0.635 ; -5.88,-0.525 -1.82,-0.525 ; -5.88,-0.415 -1.907,-0.415 ; -5.88,-0.305 -1.966,-0.305 ; -5.88,-0.195 -2.005,-0.195 ; -5.88,-0.085 -2.025,-0.085 ; -5.88,0.025 -2.03,0.025 ; -5.88,0.135 -2.018,0.135 ; -5.88,0.245 -1.989,0.245 ; -5.88,0.355 -1.942,0.355 ; -5.88,0.465 -1.871,0.465 ; -5.88,0.575 -1.767,0.575 ; -1.578,-61.655 -5.88,-61.655 -5.88,0.695 -1.578,0.695 ; 0,0.76 0.76,0.76 0.76,0
Top Assembly:
  drawing of 152 lines, arcs and shapes, not listed
  text "'.Designator'" at -2.78,-34.527 h1
Top Courtyard:
  lines w0.254: -6.35,-62.1 1.15,-62.1 1.15,1.15 -6.35,1.15 -6.35,-62.1
Top Designator:
  text ".Designator" at -10.218,-30.983 h1.52

## PinSocket_2x50_P1.27mm_Horizontal [mm]
pads (100):
  rect 1x1 hole 0.65: 1(0,0)
  round 1 hole 0.65: 2(-1.27,0) 3(0,-1.27) 4(-1.27,-1.27) 5(0,-2.54) 6(-1.27,-2.54) 7(0,-3.81) 8(-1.27,-3.81) 9(0,-5.08) 10(-1.27,-5.08) 11(0,-6.35) 12(-1.27,-6.35) 13(0,-7.62) 14(-1.27,-7.62) 15(0,-8.89) 16(-1.27,-8.89) 17(0,-10.16) 18(-1.27,-10.16) 19(0,-11.43) 20(-1.27,-11.43) 21(0,-12.7) 22(-1.27,-12.7) 23(0,-13.97) 24(-1.27,-13.97) 25(0,-15.24) 26(-1.27,-15.24) 27(0,-16.51) 28(-1.27,-16.51) 29(0,-17.78) 30(-1.27,-17.78) 31(0,-19.05) 32(-1.27,-19.05) 33(0,-20.32) 34(-1.27,-20.32) 35(0,-21.59) 36(-1.27,-21.59) 37(0,-22.86) 38(-1.27,-22.86) 39(0,-24.13) 40(-1.27,-24.13) 41(0,-25.4) 42(-1.27,-25.4) 43(0,-26.67) 44(-1.27,-26.67) 45(0,-27.94) 46(-1.27,-27.94) 47(0,-29.21) 48(-1.27,-29.21) 49(0,-30.48) 50(-1.27,-30.48) 51(0,-31.75) 52(-1.27,-31.75) 53(0,-33.02) 54(-1.27,-33.02) 55(0,-34.29) 56(-1.27,-34.29) 57(0,-35.56) 58(-1.27,-35.56) 59(0,-36.83) 60(-1.27,-36.83) 61(0,-38.1) 62(-1.27,-38.1) 63(0,-39.37) 64(-1.27,-39.37) 65(0,-40.64) 66(-1.27,-40.64) 67(0,-41.91) 68(-1.27,-41.91) 69(0,-43.18) 70(-1.27,-43.18) 71(0,-44.45) 72(-1.27,-44.45) 73(0,-45.72) 74(-1.27,-45.72) 75(0,-46.99) 76(-1.27,-46.99) 77(0,-48.26) 78(-1.27,-48.26) 79(0,-49.53) 80(-1.27,-49.53) 81(0,-50.8) 82(-1.27,-50.8) 83(0,-52.07) 84(-1.27,-52.07) 85(0,-53.34) 86(-1.27,-53.34) 87(0,-54.61) 88(-1.27,-54.61) 89(0,-55.88) 90(-1.27,-55.88) 91(0,-57.15) 92(-1.27,-57.15) 93(0,-58.42) 94(-1.27,-58.42) 95(0,-59.69) 96(-1.27,-59.69) 97(0,-60.96) 98(-1.27,-60.96) 99(0,-62.23) 100(-1.27,-62.23)
F.SilkS:
  lines w0.254: -5.88,-61.595 -1.688,-61.595 ; -5.88,-60.325 -1.688,-60.325 ; -5.88,-59.055 -1.688,-59.055 ; -5.88,-57.785 -1.688,-57.785 ; -5.88,-56.515 -1.688,-56.515 ; -5.88,-55.245 -1.688,-55.245 ; -5.88,-53.975 -1.688,-53.975 ; -5.88,-52.705 -1.688,-52.705 ; -5.88,-51.435 -1.688,-51.435 ; -5.88,-50.165 -1.688,-50.165 ; -5.88,-48.895 -1.688,-48.895 ; -5.88,-47.625 -1.688,-47.625 ; -5.88,-46.355 -1.688,-46.355 ; -5.88,-45.085 -1.688,-45.085 ; -5.88,-43.815 -1.688,-43.815 ; -5.88,-42.545 -1.688,-42.545 ; -5.88,-41.275 -1.688,-41.275 ; -5.88,-40.005 -1.688,-40.005 ; -5.88,-38.735 -1.688,-38.735 ; -5.88,-37.465 -1.688,-37.465 ; -5.88,-36.195 -1.688,-36.195 ; -5.88,-34.925 -1.688,-34.925 ; -5.88,-33.655 -1.688,-33.655 ; -5.88,-32.385 -1.688,-32.385 ; -5.88,-31.115 -1.688,-31.115 ; -5.88,-29.845 -1.688,-29.845 ; -5.88,-28.575 -1.688,-28.575 ; -5.88,-27.305 -1.688,-27.305 ; -5.88,-26.035 -1.688,-26.035 ; -5.88,-24.765 -1.688,-24.765 ; -5.88,-23.495 -1.688,-23.495 ; -5.88,-22.225 -1.688,-22.225 ; -5.88,-20.955 -1.688,-20.955 ; -5.88,-19.685 -1.688,-19.685 ; -5.88,-18.415 -1.688,-18.415 ; -5.88,-17.145 -1.688,-17.145 ; -5.88,-15.875 -1.688,-15.875 ; -5.88,-14.605 -1.688,-14.605 ; -5.88,-13.335 -1.688,-13.335 ; -5.88,-12.065 -1.688,-12.065 ; -5.88,-10.795 -1.688,-10.795 ; -5.88,-9.525 -1.688,-9.525 ; -5.88,-8.255 -1.688,-8.255 ; -5.88,-6.985 -1.688,-6.985 ; -5.88,-5.715 -1.688,-5.715 ; -5.88,-4.445 -1.688,-4.445 ; -5.88,-3.175 -1.688,-3.175 ; -5.88,-1.905 -1.688,-1.905 ; -5.88,-0.635 -1.688,-0.635 ; -5.88,-0.525 -1.82,-0.525 ; -5.88,-0.415 -1.907,-0.415 ; -5.88,-0.305 -1.966,-0.305 ; -5.88,-0.195 -2.005,-0.195 ; -5.88,-0.085 -2.025,-0.085 ; -5.88,0.025 -2.03,0.025 ; -5.88,0.135 -2.018,0.135 ; -5.88,0.245 -1.989,0.245 ; -5.88,0.355 -1.942,0.355 ; -5.88,0.465 -1.871,0.465 ; -5.88,0.575 -1.767,0.575 ; -1.578,-62.925 -5.88,-62.925 -5.88,0.695 -1.578,0.695 ; 0,0.76 0.76,0.76 0.76,0
Top Assembly:
  drawing of 155 lines, arcs and shapes, not listed
  text "'.Designator'" at -2.78,-35.162 h1
Top Courtyard:
  lines w0.254: -6.35,-63.4 -6.35,1.1 1.15,1.1 1.15,-63.4 -6.35,-63.4
Top Designator:
  text ".Designator" at -10.218,-31.658 h1.52